# Altium footprint library TPS3847108DBVT.PcbLib: 3 footprints
Each footprint in its own frame and in the unit in brackets; x right, y up, seen from the top. Pads: shape width x height; smd on the part's side, far side on the other; paste and mask are expansions set on the pad; w line width, h text height; cw(c..) or ccw(c..) is an arc to the next point about the centre after c.
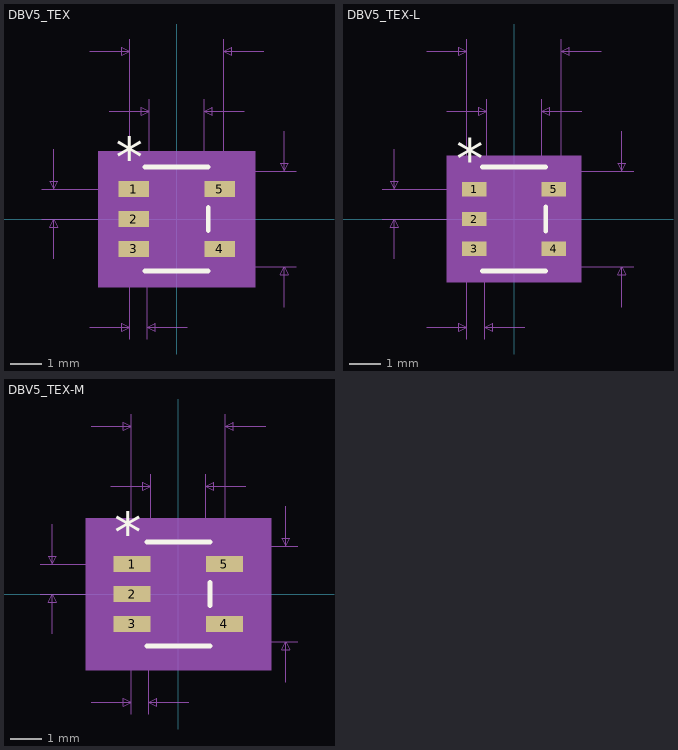
[diagram p0: the footprints below, top view; thin cyan lines are the x and y axes]

## DBV5_TEX [mil]
pads (5):
  rect 38.5x20 smd paste+0 mask+0: 1(-53.75,37.4) 2(-53.75,0) 3(-53.75,-37.4) 4(53.75,-37.4) 5(53.75,37.4)
Top Overlay:
  lines w6: -39.5,-65 39.5,-65 ; -39.5,65 39.5,65 ; 39.5,-14.3 39.5,14.3
  text "*" at -76.25,52.4 h50
Mechanical 5:
  region: 98,-85 -98,-85 -98,85 98,85
Mechanical 7:
  lines w1: -168.75,0 -53.75,0 ; -168.75,37.4 -53.75,37.4 ; -153.75,-50 -153.75,0 ; -153.75,87.4 -153.75,37.4 ; -109,-135 -59,-135 ; -109,210 -59,210 ; -84.5,135 -34.5,135 ; -59,-150 -59,0 -59,225 ; -37,-150 -37,0 ; -34.5,0 -34.5,150 ; 0,-60 149.5,-60 ; 0,60 149.5,60 ; 13,-135 -37,-135 ; 34.5,0 34.5,150 ; 59,0 59,225 ; 84.5,135 34.5,135 ; 109,210 59,210 ; 134.5,-110 134.5,-60 ; 134.5,110 134.5,60 ; -153.75,0 -148.75,-10 -158.75,-10 -153.75,0 ; -153.75,37.4 -148.75,47.4 -158.75,47.4 -153.75,37.4 ; -59,-135 -69,-140 -69,-130 -59,-135 ; -59,210 -69,205 -69,215 -59,210 ; -37,-135 -27,-140 -27,-130 -37,-135 ; -34.5,135 -44.5,130 -44.5,140 -34.5,135 ; 34.5,135 44.5,130 44.5,140 34.5,135 ; 59,210 69,205 69,215 59,210 ; 134.5,-60 139.5,-70 129.5,-70 134.5,-60 ; 134.5,60 139.5,70 129.5,70 134.5,60
  text "0.022in/0.559mm" at -141.75,-180 h25
  text "0.037in/0.95mm" at -348.75,6.2 h25
  text "0.12in/3.048mm" at 154.5,-12.5 h25
  text "0.118in/2.997mm" at -93.75,230 h25
  text "0.069in/1.753mm" at -93.75,155 h25
  text "Alt 2 Padstyle: OX90Y60D30P" at -337.5,-560 h50
  text "Alt 1 Padstyle: OX60Y90D30P" at -337.5,-500 h50
  text "Pin 1 Padstyle: RX38p5Y20D0T" at -350,-320 h50
  text "Default Padstyle: RX38p5Y20D0T" at -375,-260 h50
Mechanical 13:
  lines w0: -12,60 ccw(c0,60) 12,60
  lines w1: -59,-47.4 -34.5,-47.4 -34.5,-27.4 -59,-27.4 -59,-47.4 ; -59,-10 -34.5,-10 -34.5,10 -59,10 -59,-10 ; -59,27.4 -34.5,27.4 -34.5,47.4 -59,47.4 -59,27.4 ; -34.5,-60 -34.5,60 34.5,60 34.5,-60 -34.5,-60 ; 34.5,-47.4 59,-47.4 59,-27.4 34.5,-27.4 34.5,-47.4 ; 34.5,27.4 59,27.4 59,47.4 34.5,47.4 34.5,27.4
  text "*" at -37,14.4 h50
Mechanical 15:
  region: 44.5,-70 -44.5,-70 -44.5,-57.4 -83,-57.4 -83,57.4 -44.5,57.4 -44.5,70 44.5,70 44.5,57.4 83,57.4 83,-57.4 44.5,-57.4
  lines w6: -83,-57.4 -83,57.4 -44.5,57.4 -44.5,70 44.5,70 44.5,57.4 83,57.4 83,-57.4 44.5,-57.4 44.5,-70 -44.5,-70 -44.5,-57.4 -83,-57.4
3D body: height 10, standoff 0, extent 0,0 10,10

## DBV5_TEX-L [mil]
pads (5):
  rect 30.5x18 smd paste+0 mask+0: 1(-49.75,37.4) 2(-49.75,0) 3(-49.75,-37.4) 4(49.75,-37.4) 5(49.75,37.4)
Top Overlay:
  lines w6: -39.5,-65 39.5,-65 ; -39.5,65 39.5,65 ; 39.5,-15.3 39.5,15.3
  text "*" at -72.25,50.4 h50
Mechanical 5:
  region: 84,-79 -84,-79 -84,79 84,79
Mechanical 7:
  lines w1: -164.75,0 -49.75,0 ; -164.75,37.4 -49.75,37.4 ; -149.75,-50 -149.75,0 ; -149.75,87.4 -149.75,37.4 ; -109,-135 -59,-135 ; -109,210 -59,210 ; -84.5,135 -34.5,135 ; -59,-150 -59,0 -59,225 ; -37,-150 -37,0 ; -34.5,0 -34.5,150 ; 0,-60 149.5,-60 ; 0,60 149.5,60 ; 13,-135 -37,-135 ; 34.5,0 34.5,150 ; 59,0 59,225 ; 84.5,135 34.5,135 ; 109,210 59,210 ; 134.5,-110 134.5,-60 ; 134.5,110 134.5,60 ; -149.75,0 -154.75,-10 -144.75,-10 -149.75,0 ; -149.75,37.4 -154.75,47.4 -144.75,47.4 -149.75,37.4 ; -59,-135 -69,-130 -69,-140 -59,-135 ; -59,210 -69,215 -69,205 -59,210 ; -37,-135 -27,-130 -27,-140 -37,-135 ; -34.5,135 -44.5,140 -44.5,130 -34.5,135 ; 34.5,135 44.5,140 44.5,130 34.5,135 ; 59,210 69,215 69,205 59,210 ; 134.5,-60 129.5,-70 139.5,-70 134.5,-60 ; 134.5,60 129.5,70 139.5,70 134.5,60
  text "Default Padstyle: RX30p5Y18D0T" at -375,-260 h50
  text "Pin 1 Padstyle: RX30p5Y18D0T" at -350,-320 h50
  text "Alt 1 Padstyle: OX60Y90D30P" at -337.5,-500 h50
  text "Alt 2 Padstyle: OX90Y60D30P" at -337.5,-560 h50
  text "0.069in/1.753mm" at -93.75,155 h25
  text "0.118in/2.997mm" at -93.75,230 h25
  text "0.12in/3.048mm" at 154.5,-12.5 h25
  text "0.037in/0.95mm" at -344.75,6.2 h25
  text "0.022in/0.559mm" at -141.75,-180 h25
Mechanical 13:
  lines w0: -12,60 ccw(c0,60) 12,60
  lines w1: -59,-47.4 -59,-27.4 -34.5,-27.4 -34.5,-47.4 -59,-47.4 ; -59,-10 -59,10 -34.5,10 -34.5,-10 -59,-10 ; -59,27.4 -59,47.4 -34.5,47.4 -34.5,27.4 -59,27.4 ; -34.5,-60 34.5,-60 34.5,60 -34.5,60 -34.5,-60 ; 34.5,-47.4 34.5,-27.4 59,-27.4 59,-47.4 34.5,-47.4 ; 34.5,27.4 34.5,47.4 59,47.4 59,27.4 34.5,27.4
  text "*" at -37,12.4 h50
Mechanical 15:
  region: 38.5,-64 -38.5,-64 -38.5,-50.4 -69,-50.4 -69,50.4 -38.5,50.4 -38.5,64 38.5,64 38.5,50.4 69,50.4 69,-50.4 38.5,-50.4
  lines w6: -69,-50.4 -38.5,-50.4 -38.5,-64 38.5,-64 38.5,-50.4 69,-50.4 69,50.4 38.5,50.4 38.5,64 -38.5,64 -38.5,50.4 -69,50.4 -69,-50.4
3D body: height 10, standoff 0, extent 0,0 10,10

## DBV5_TEX-M [mil]
pads (5):
  rect 46.5x20 smd paste+0 mask+0: 1(-57.75,37.4) 2(-57.75,0) 3(-57.75,-37.4) 4(57.75,-37.4) 5(57.75,37.4)
Top Overlay:
  lines w6: -39.5,-65 39.5,-65 ; -39.5,65 39.5,65 ; 39.5,-14.3 39.5,14.3
  text "*" at -80.25,52.4 h50
Mechanical 5:
  region: 116,-95 -116,-95 -116,95 116,95
Mechanical 7:
  lines w1: -172.75,0 -57.75,0 ; -172.75,37.4 -57.75,37.4 ; -157.75,-50 -157.75,0 ; -157.75,87.4 -157.75,37.4 ; -109,-135 -59,-135 ; -109,210 -59,210 ; -84.5,135 -34.5,135 ; -59,-150 -59,0 -59,225 ; -37,-150 -37,0 ; -34.5,0 -34.5,150 ; 0,-60 149.5,-60 ; 0,60 149.5,60 ; 13,-135 -37,-135 ; 34.5,0 34.5,150 ; 59,0 59,225 ; 84.5,135 34.5,135 ; 109,210 59,210 ; 134.5,-110 134.5,-60 ; 134.5,110 134.5,60 ; -157.75,0 -162.75,-10 -152.75,-10 -157.75,0 ; -157.75,37.4 -162.75,47.4 -152.75,47.4 -157.75,37.4 ; -59,-135 -69,-130 -69,-140 -59,-135 ; -59,210 -69,215 -69,205 -59,210 ; -37,-135 -27,-130 -27,-140 -37,-135 ; -34.5,135 -44.5,140 -44.5,130 -34.5,135 ; 34.5,135 44.5,140 44.5,130 34.5,135 ; 59,210 69,215 69,205 59,210 ; 134.5,-60 129.5,-70 139.5,-70 134.5,-60 ; 134.5,60 129.5,70 139.5,70 134.5,60
  text "Default Padstyle: RX46p5Y20D0T" at -375,-260 h50
  text "Pin 1 Padstyle: RX46p5Y20D0T" at -350,-320 h50
  text "Alt 1 Padstyle: OX60Y90D30P" at -337.5,-500 h50
  text "Alt 2 Padstyle: OX90Y60D30P" at -337.5,-560 h50
  text "0.069in/1.753mm" at -93.75,155 h25
  text "0.118in/2.997mm" at -93.75,230 h25
  text "0.12in/3.048mm" at 154.5,-12.5 h25
  text "0.037in/0.95mm" at -352.75,6.2 h25
  text "0.022in/0.559mm" at -141.75,-180 h25
Mechanical 13:
  lines w0: -12,60 ccw(c0,60) 12,60
  lines w1: -59,-47.4 -59,-27.4 -34.5,-27.4 -34.5,-47.4 -59,-47.4 ; -59,-10 -59,10 -34.5,10 -34.5,-10 -59,-10 ; -59,27.4 -59,47.4 -34.5,47.4 -34.5,27.4 -59,27.4 ; -34.5,-60 34.5,-60 34.5,60 -34.5,60 -34.5,-60 ; 34.5,-47.4 34.5,-27.4 59,-27.4 59,-47.4 34.5,-47.4 ; 34.5,27.4 34.5,47.4 59,47.4 59,27.4 34.5,27.4
  text "*" at -37,14.4 h50
Mechanical 15:
  region: 54.5,-80 -54.5,-80 -54.5,-67.4 -101,-67.4 -101,67.4 -54.5,67.4 -54.5,80 54.5,80 54.5,67.4 101,67.4 101,-67.4 54.5,-67.4
  lines w6: -101,-67.4 -54.5,-67.4 -54.5,-80 54.5,-80 54.5,-67.4 101,-67.4 101,67.4 54.5,67.4 54.5,80 -54.5,80 -54.5,67.4 -101,67.4 -101,-67.4
3D body: height 10, standoff 0, extent 0,0 10,10
3D body "DBV0005A.stp": height 47.24, standoff 0, extent -55.11,-57.08 55.12,57.1